# EAGLE library part SDP31-500PA (library SDP31-500Pa)
SENSIRION - SDP31-500PA - PRESSURE SENSOR, 500PA, 3.3V Source: Datasheet <https://www.sensirion.com/fileadmin/user_upload/customers/sensirion/Dokumente/Differential_Pressure_Sensors/Sensirion_Differential_Pressure_Sensors_SDP3x_Digital_Datasheet_V0.6.pdf>
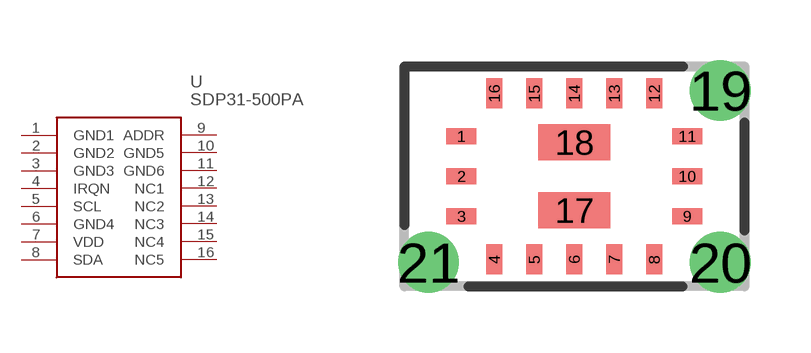
[diagram p0: symbol with the pads of SDP31-500PA; footprint SDP31-500PA]

Designator prefix U

## SDP31-500PA (Arrow_Part_Number: SDP31-500Pa; Arrow_Price/Stock: https://www.arrow.com/en/products/sdp31-500pa/sensirion-ag; Description: SENSIRION - SDP31-500PA - PRESSURE SENSOR, 500PA, 3.3V; Height: mm; Manufacturer_Name: Sensirion; Manufacturer_Part_Number: SDP31-500Pa; RS_Part_Number: 1237131; RS_Price/Stock: http://uk.rs-online.com/web/p/products/1237131)  [SDP31-500PA]
1  GND1
2  GND2
3  GND3
4  IRQN
5  SCL
6  GND4
7  VDD
8  SDA
9  ADDR
10  GND5
11  GND6
12  NC1
13  NC2
14  NC3
15  NC4
16  NC5

## Footprint SDP31-500PA (pad centres in mm)
SDP31-500Pa
smd 0.75 x 0.4: 1 -2.825,1; 2 -2.825,0; 3 -2.825,-1; 9 2.825,-1; 10 2.825,0; 11 2.825,1
smd 0.4 x 0.75: 4 -2,-2.075; 5 -1,-2.075; 6 0,-2.075; 7 1,-2.075; 8 2,-2.075; 12 2,2.075; 13 1,2.075; 14 0,2.075; 15 -1,2.075; 16 -2,2.075
smd 1.8 x 0.9: 17 0,-0.85; 18 0,0.85
drill 0.889 pad 1.524: 19 3.65,2.15; 20 3.65,-2.15; 21 -3.65,-2.15